# Altium schematic symbol library LT6100HMS8PBF Current Sense Amp.Schlib: 1 symbol
Pins are listed as number, name and electrical type; pins without a type are passive.

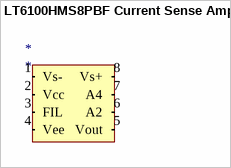
[diagram p0: symbol LT6100HMS8PBF Current Sense Amp]

## LT6100HMS8PBF Current Sense Amp
designator *
High Side Current Sense Amp
pins: 1 Vs- (in), 2 Vcc (in), 3 FIL (in), 4 Vee (in), 5 Vout (in), 6 A2 (in), 7 A4 (in), 8 Vs+ (in)